# Altium footprint library DIP.PcbLib: 4 footprints
Each footprint in its own frame and in the unit in brackets; x right, y up, seen from the top. Pads: shape width x height; smd on the part's side, far side on the other; paste and mask are expansions set on the pad; w line width, h text height; cw(c..) or ccw(c..) is an arc to the next point about the centre after c.
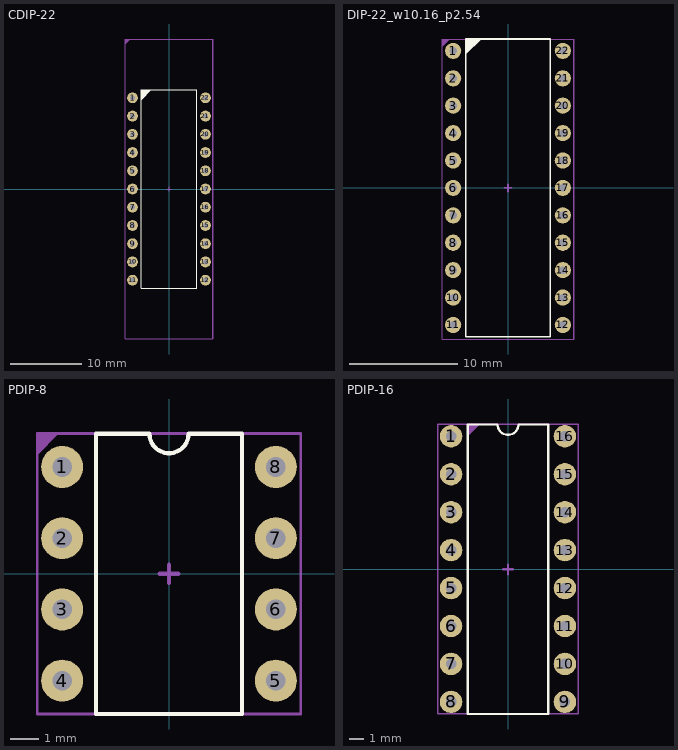
[diagram p0: the footprints below, top view; thin cyan lines are the x and y axes]

## CDIP-22 [mm]
pads (22):
  round 1.5 hole 0.7: 1(-5.08,12.7) 2(-5.08,10.16) 3(-5.08,7.62) 4(-5.08,5.08) 5(-5.08,2.54) 6(-5.08,0) 7(-5.08,-2.54) 8(-5.08,-5.08) 9(-5.08,-7.62) 10(-5.08,-10.16) 11(-5.08,-12.7) 12(5.08,-12.7) 13(5.08,-10.16) 14(5.08,-7.62) 15(5.08,-5.08) 16(5.08,-2.54) 17(5.08,0) 18(5.08,2.54) 19(5.08,5.08) 20(5.08,7.62) 21(5.08,10.16) 22(5.08,12.7)
Top Overlay:
  region: -3.9,13.8 -3.9,12.4 -2.5,13.8
  lines w0.153: -3.9,-13.8 3.9,-13.8 3.9,13.8 -3.9,13.8 -3.9,-13.8
Top Assembly:
  region: -6.1,20.9 -5.45,20.9 -6.1,20.25
  lines w0.1: -6.1,20.25 -5.45,20.9 ; -6.1,-20.9 -6.1,20.9 6.1,20.9 6.1,-20.9 -6.1,-20.9
  text "'.Designator'" at -0.635,8.633 h1.52
Top Courtyard:
  lines w0.1: -6.1,-20.9 6.1,-20.9 6.1,20.9 -6.1,20.9 -6.1,-20.9
  lines w0.153: -0.325,0 0.325,0 ; 0,-0.325 0,0.325
3D body "User Library-TCD1304.step": height 3.22, standoff -4.01, extent -5.38,-20.8 5.38,20.8

## DIP-22_w10.16_p2.54 [mm]
pads (22):
  round 1.5 hole 0.7: 1(-5.08,12.7) 2(-5.08,10.16) 3(-5.08,7.62) 4(-5.08,5.08) 5(-5.08,2.54) 6(-5.08,0) 7(-5.08,-2.54) 8(-5.08,-5.08) 9(-5.08,-7.62) 10(-5.08,-10.16) 11(-5.08,-12.7) 12(5.08,-12.7) 13(5.08,-10.16) 14(5.08,-7.62) 15(5.08,-5.08) 16(5.08,-2.54) 17(5.08,0) 18(5.08,2.54) 19(5.08,5.08) 20(5.08,7.62) 21(5.08,10.16) 22(5.08,12.7)
Top Overlay:
  region: -3.9,13.8 -3.9,12.4 -2.5,13.8
  lines w0.153: -3.9,-13.8 -3.9,13.8 3.9,13.8 3.9,-13.8 -3.9,-13.8
Top Assembly:
  region: -6.1,13.8 -5.45,13.8 -6.1,13.15
  lines w0.1: -6.1,13.15 -5.45,13.8 ; -6.1,-14 6.1,-14 6.1,13.8 -6.1,13.8 -6.1,-14
  text "'.Designator'" at -0.635,8.633 h1.52
Top Courtyard:
  lines w0.1: -6.1,-14 -6.1,13.8 6.1,13.8 6.1,-14 -6.1,-14
  lines w0.153: -0.325,0 0.325,0 ; 0,-0.325 0,0.325
3D body "21648.stp": height 4.25, standoff -3.12, extent -6.3,-14 6.3,13.8

## PDIP-8 [mm]
pads (8):
  round 1.5 hole 0.7: 1(-3.81,3.81) 2(-3.81,1.27) 3(-3.81,-1.27) 4(-3.81,-3.81) 5(3.81,-3.81) 6(3.81,-1.27) 7(3.81,1.27) 8(3.81,3.81)
Top Overlay:
  lines w0.153: -2.6,-5 2.6,-5 2.6,5 0.7,5 cw(c0,5) -0.7,5 -2.6,5 -2.6,-5
Top Assembly:
  region: -4.7,5 -4,5 -4.7,4.3
  lines w0.1: -4.7,4.3 -4,5 ; -4.7,-5 -4.7,5 4.7,5 4.7,-5 -4.7,-5
  text "'.Designator'" at -0.333,4.532 h0.8
Mechanical 15:
  lines w0.1: -4.7,-5 4.7,-5 4.7,5 -4.7,5 -4.7,-5
  lines w0.153: -0.325,0 0.325,0 ; 0,-0.325 0,0.325
3D body "PDIP-8.step": height 5.1, standoff -3.18, extent -4.13,-5 4.13,5

## PDIP-16 [mm]
pads (16):
  round 1.5 hole 0.7: 1(-3.81,8.89) 2(-3.81,6.35) 3(-3.81,3.81) 4(-3.81,1.27) 5(-3.81,-1.27) 6(-3.81,-3.81) 7(-3.81,-6.35) 8(-3.81,-8.89) 9(3.81,-8.89) 10(3.81,-6.35) 11(3.81,-3.81) 12(3.81,-1.27) 13(3.81,1.27) 14(3.81,3.81) 15(3.81,6.35) 16(3.81,8.89)
Top Overlay:
  lines w0.153: -2.7,-9.7 -2.7,9.68 -0.7,9.68 ccw(c0,9.68) 0.7,9.68 2.7,9.68 2.7,-9.7 -2.7,-9.7
Top Assembly:
  region: -2.65,9.7 -1.95,9.7 -2.65,9
  lines w0.1: -2.65,9 -1.95,9.7 ; -2.7,-9.7 2.7,-9.7 2.7,9.7 -2.7,9.7 -2.7,-9.7
  text "'.Designator'" at -0.333,4.532 h0.8
Mechanical 15:
  lines w0.1: -4.7,-9.7 4.7,-9.7 4.7,9.7 -4.7,9.7 -4.7,-9.7
  lines w0.153: -0.325,-0.02 0.325,-0.02 ; 0,-0.345 0,0.305
3D body "User Library-DIP-16P-M03.STEP": height 4.66, standoff -3, extent -3.935,-9.72 3.935,9.68